# Altium integrated library Linear Technology PMIC-Switching Reg LTC1174-LTC3901.IntLib: 2647 symbols (part 157 of 310)
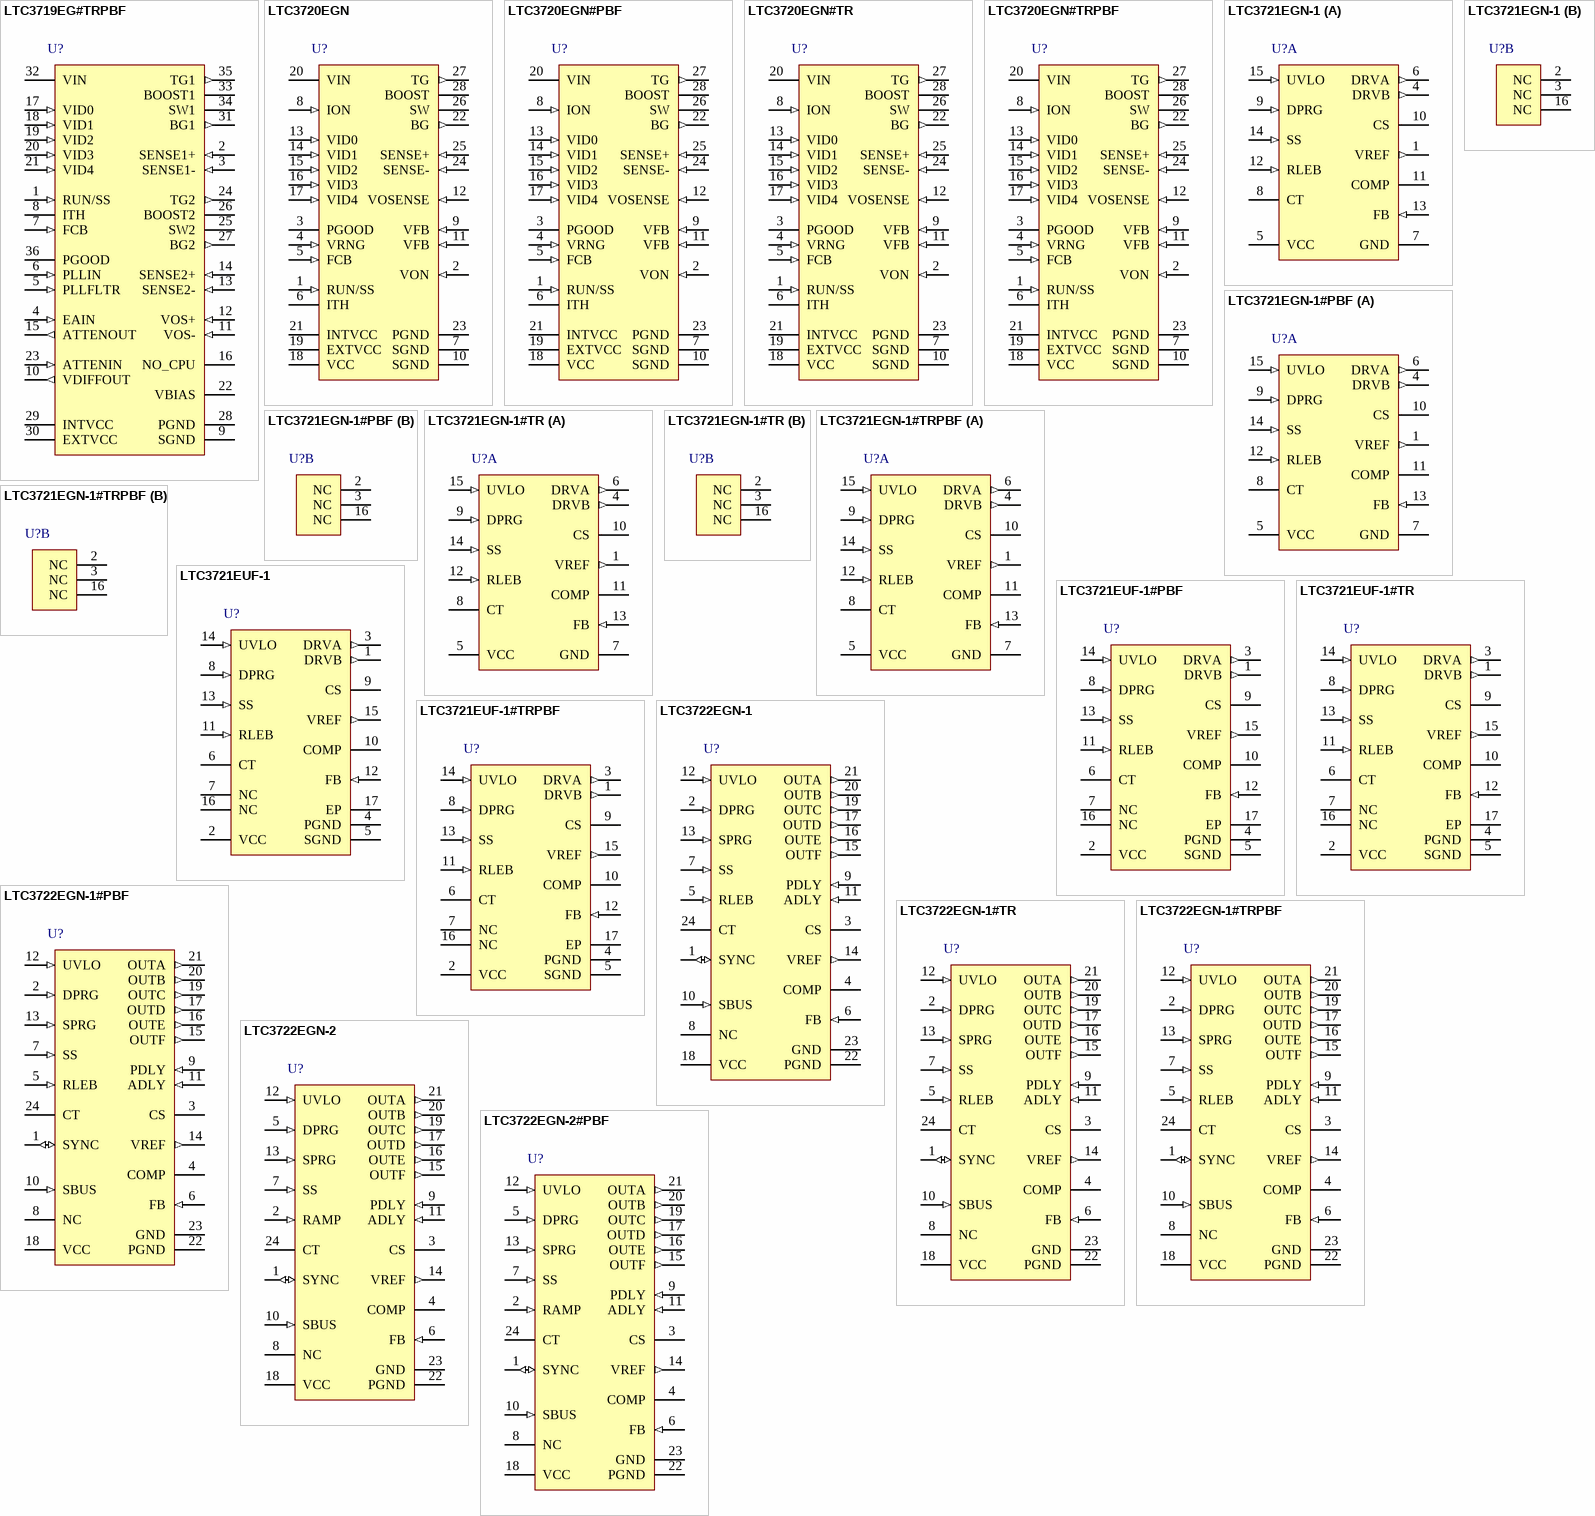
[diagram p206: symbols LTC3719EG#TRPBF to LTC3722EGN-2#PBF]

## LTC3720EGN#TR
designator U?
Single Phase VRM8.5 Current Mode Step-Down Controller, 28-pin SOP (GN-28), -40 to 85 degC, Tape and Reel; Manufacturer: Linear Technology; PartNumber: LTC3720EGN#TR; Number of Outputs: 1; PackageReference: GN-28; PackageDescription: 28-Pin Plastic SSOP, Body 9.9 x 3.9 mm, Pitch 0.635 mm; Supplier 1: Digi-Key; Supplier Part Number 1: LTC3720EGNTR-ND; RoHS: FALSE
footprint LT-GN-28_N (SOP, 28-Leads, Body 9.98x3.98mm, Pitch 0.635mm, IPC Medium Density)
footprint LT-GN-28_L (SOP, 28-Leads, Body 9.98x3.98mm, Pitch 0.635mm, IPC High Density)
footprint LT-GN-28_M (SOP, 28-Leads, Body 9.98x3.98mm, Pitch 0.635mm, IPC Low Density)
pins: 1 RUN/SS (in) "Run Control and Soft-Start Input. A capacitor to ground at this pin sets the ramp time to full output current (approximately 3s/uF) and the time delay for overcurrent latchoff (see Applications Information). Forcing this pin (See Datasheet)", 2 VON (in) "On-Time Voltage Input. Voltage trip point for the on-time comparator. Tying this pin to the output voltage makes the on-time proportional to VOUT. The comparator input defaults to 0.7V when the pin is grounded, 2.4V when the (See Datasheet)", 3 PGOOD (oc) "Power Good Output. Open drain logic output that is pulled to ground when the output voltage is not within +/-7.5% of the regulation point.", 4 VRNG (in) "Sense Voltage Range Input. The voltage at this pin is ten times the nominal sense voltage at maximum output current and can be set from 0.5V to 2V by a resistive divider from INTVCC. The nominal sense voltage defaults to (See Datasheet)", 5 FCB (in) "Forced Continuous Input. Tie this pin to ground to force continuous synchronous operation at low load or to INTVCC to enable discontinuous mode operation at low load.", 6 ITH "Current Control Threshold and Error Amplifier Compensation Point. The current comparator threshold increases with this control voltage. The voltage ranges from 0V to 2.4V with 0.8V corresponding to zero sense voltage (zero (See Datasheet)", 7 SGND (power) "Signal Ground. All small-signal components and compensation components should connect to this ground, which in turn connects to PGND at one point.", 8 ION (in) "On-Time Current Input. Tie a resistor from VIN to this pin to set the one-shot timer current and thereby set the switching frequency.", 9 VFB (in) "Error Amplifier Feedback Input. This pin connects to both the error amplifier input and to the output of the internal resistive divider. It can be used to attach additional compensation components if desired.", 10 SGND (power) "Signal Ground. All small-signal components and compensation components should connect to this ground, which in turn connects to PGND at one point.", 11 VFB (in) "Error Amplifier Feedback Input. This pin connects to both the error amplifier input and to the output of the internal resistive divider. It can be used to attach additional compensation components if desired.", 12 VOSENSE (in) "Output Voltage Sense. The output voltage connects here to the input of the internal resistive feedback divider.", 13 VID0 (in) "VID Digital Inputs. The voltage identification (VID) code sets the internal feedback resistor divider ratio for different output voltages as shown in Table 1. If unconnected, the pins are pulled high by internal 40k pull-up (See Datasheet)", 14 VID1 (in) "VID Digital Inputs. The voltage identification (VID) code sets the internal feedback resistor divider ratio for different output voltages as shown in Table 1. If unconnected, the pins are pulled high by internal 40k pull-up (See Datasheet)", 15 VID2 (in) "VID Digital Inputs. The voltage identification (VID) code sets the internal feedback resistor divider ratio for different output voltages as shown in Table 1. If unconnected, the pins are pulled high by internal 40k pull-up (See Datasheet)", 16 VID3 (in) "VID Digital Inputs. The voltage identification (VID) code sets the internal feedback resistor divider ratio for different output voltages as shown in Table 1. If unconnected, the pins are pulled high by internal 40k pull-up (See Datasheet)", 17 VID4 (in) "VID Digital Inputs. The voltage identification (VID) code sets the internal feedback resistor divider ratio for different output voltages as shown in Table 1. If unconnected, the pins are pulled high by internal 40k pull-up (See Datasheet)", 18 VCC (power) "Power Supply Voltage for VID. Range is from 3.1V to 5.5V.", 19 EXTVCC (power) "External VCC Input. When EXTVCC exceeds 4.7V, an internal switch connects this pin to INTVCC and shuts down the internal regulator so that controller and gate drive power is drawn from EXTVCC. Do not exceed 7V at this pin (See Datasheet)", 20 VIN (power) "Main Input Supply. Decouple this pin to PGND with an RC filter (1ohm, 0.1uF).", 21 INTVCC (power) "Internal 5V Regulator Output. The driver and control circuits are powered from this voltage. Decouple this pin to power ground with a minimum of 4.7mF low ESR tantalum capacitor", 22 BG (out) "Bottom Gate Drive. Drives the gate of the bottom N-channel MOSFET between ground and INTVCC.", 23 PGND (power) "Power Ground. Connect this pin closely to the source of the bottom N-channel MOSFET, the (-) terminal of CVCC and the (-) terminal of CIN.", 24 SENSE- (in) "Current Sense Comparator Input. The (-) input is normally connected to PGND.", 25 SENSE+ (in) "Current Sense Comparator Input. The (+) input to the current comparator is normally connected to the SW node unless using a sense resistor (see Applications Information).", 26 SW "Switch Node. The (-) terminal of the bootstrap capacitor CB connects here. This pin swings from a diode voltage drop below ground up to VIN.", 27 TG (out) "Top Gate Drive. Drives the top N-channel MOSFET with a voltage swing equal to INTVCC superimposed on the switch node voltage SW.", 28 BOOST "Boosted Floating Driver Supply. The (+) terminal of the bootstrap capacitor CB connects here. This pin swings from a diode voltage drop below INTVCC up to VIN + INTVCC."

## LTC3720EGN#TRPBF
designator U?
Single Phase VRM8.5 Current Mode Step-Down Controller, 28-pin SOP (GN-28), -40 to 85 degC, Pb-Free, Tape and Reel; Manufacturer: Linear Technology; PartNumber: LTC3720EGN#TRPBF; Number of Outputs: 1; PackageReference: GN-28; PackageDescription: 28-Pin Plastic SSOP, Body 9.9 x 3.9 mm, Pitch 0.635 mm; Supplier 1: Digi-Key; Supplier Part Number 1: LTC3720EGN#TRPBF-ND; RoHS: TRUE
footprint LT-GN-28_N (SOP, 28-Leads, Body 9.98x3.98mm, Pitch 0.635mm, IPC Medium Density)
footprint LT-GN-28_L (SOP, 28-Leads, Body 9.98x3.98mm, Pitch 0.635mm, IPC High Density)
footprint LT-GN-28_M (SOP, 28-Leads, Body 9.98x3.98mm, Pitch 0.635mm, IPC Low Density)
pins: 1 RUN/SS (in) "Run Control and Soft-Start Input. A capacitor to ground at this pin sets the ramp time to full output current (approximately 3s/uF) and the time delay for overcurrent latchoff (see Applications Information). Forcing this pin (See Datasheet)", 2 VON (in) "On-Time Voltage Input. Voltage trip point for the on-time comparator. Tying this pin to the output voltage makes the on-time proportional to VOUT. The comparator input defaults to 0.7V when the pin is grounded, 2.4V when the (See Datasheet)", 3 PGOOD (oc) "Power Good Output. Open drain logic output that is pulled to ground when the output voltage is not within +/-7.5% of the regulation point.", 4 VRNG (in) "Sense Voltage Range Input. The voltage at this pin is ten times the nominal sense voltage at maximum output current and can be set from 0.5V to 2V by a resistive divider from INTVCC. The nominal sense voltage defaults to (See Datasheet)", 5 FCB (in) "Forced Continuous Input. Tie this pin to ground to force continuous synchronous operation at low load or to INTVCC to enable discontinuous mode operation at low load.", 6 ITH "Current Control Threshold and Error Amplifier Compensation Point. The current comparator threshold increases with this control voltage. The voltage ranges from 0V to 2.4V with 0.8V corresponding to zero sense voltage (zero (See Datasheet)", 7 SGND (power) "Signal Ground. All small-signal components and compensation components should connect to this ground, which in turn connects to PGND at one point.", 8 ION (in) "On-Time Current Input. Tie a resistor from VIN to this pin to set the one-shot timer current and thereby set the switching frequency.", 9 VFB (in) "Error Amplifier Feedback Input. This pin connects to both the error amplifier input and to the output of the internal resistive divider. It can be used to attach additional compensation components if desired.", 10 SGND (power) "Signal Ground. All small-signal components and compensation components should connect to this ground, which in turn connects to PGND at one point.", 11 VFB (in) "Error Amplifier Feedback Input. This pin connects to both the error amplifier input and to the output of the internal resistive divider. It can be used to attach additional compensation components if desired.", 12 VOSENSE (in) "Output Voltage Sense. The output voltage connects here to the input of the internal resistive feedback divider.", 13 VID0 (in) "VID Digital Inputs. The voltage identification (VID) code sets the internal feedback resistor divider ratio for different output voltages as shown in Table 1. If unconnected, the pins are pulled high by internal 40k pull-up (See Datasheet)", 14 VID1 (in) "VID Digital Inputs. The voltage identification (VID) code sets the internal feedback resistor divider ratio for different output voltages as shown in Table 1. If unconnected, the pins are pulled high by internal 40k pull-up (See Datasheet)", 15 VID2 (in) "VID Digital Inputs. The voltage identification (VID) code sets the internal feedback resistor divider ratio for different output voltages as shown in Table 1. If unconnected, the pins are pulled high by internal 40k pull-up (See Datasheet)", 16 VID3 (in) "VID Digital Inputs. The voltage identification (VID) code sets the internal feedback resistor divider ratio for different output voltages as shown in Table 1. If unconnected, the pins are pulled high by internal 40k pull-up (See Datasheet)", 17 VID4 (in) "VID Digital Inputs. The voltage identification (VID) code sets the internal feedback resistor divider ratio for different output voltages as shown in Table 1. If unconnected, the pins are pulled high by internal 40k pull-up (See Datasheet)", 18 VCC (power) "Power Supply Voltage for VID. Range is from 3.1V to 5.5V.", 19 EXTVCC (power) "External VCC Input. When EXTVCC exceeds 4.7V, an internal switch connects this pin to INTVCC and shuts down the internal regulator so that controller and gate drive power is drawn from EXTVCC. Do not exceed 7V at this pin (See Datasheet)", 20 VIN (power) "Main Input Supply. Decouple this pin to PGND with an RC filter (1ohm, 0.1uF).", 21 INTVCC (power) "Internal 5V Regulator Output. The driver and control circuits are powered from this voltage. Decouple this pin to power ground with a minimum of 4.7mF low ESR tantalum capacitor", 22 BG (out) "Bottom Gate Drive. Drives the gate of the bottom N-channel MOSFET between ground and INTVCC.", 23 PGND (power) "Power Ground. Connect this pin closely to the source of the bottom N-channel MOSFET, the (-) terminal of CVCC and the (-) terminal of CIN.", 24 SENSE- (in) "Current Sense Comparator Input. The (-) input is normally connected to PGND.", 25 SENSE+ (in) "Current Sense Comparator Input. The (+) input to the current comparator is normally connected to the SW node unless using a sense resistor (see Applications Information).", 26 SW "Switch Node. The (-) terminal of the bootstrap capacitor CB connects here. This pin swings from a diode voltage drop below ground up to VIN.", 27 TG (out) "Top Gate Drive. Drives the top N-channel MOSFET with a voltage swing equal to INTVCC superimposed on the switch node voltage SW.", 28 BOOST "Boosted Floating Driver Supply. The (+) terminal of the bootstrap capacitor CB connects here. This pin swings from a diode voltage drop below INTVCC up to VIN + INTVCC."

## LTC3721EGN-1
designator U?
Push-Pull PWM Controller, 16-pin SOP (GN-16), -40 to 85 degC; Manufacturer: Linear Technology; PartNumber: LTC3721EGN-1; Number of Outputs: 1; PackageReference: GN-16; PackageDescription: 16-Pin Plastic SSOP, Body 4.9 x 3.9 mm, Pitch 0.635 mm; Supplier 1: Digi-Key; Supplier Part Number 1: LTC3721EGN-1-ND; RoHS: FALSE
footprint LT-GN-16_N (SOP, 16-Leads, Body 5x4mm, Pitch 0.635mm, IPC Medium Density)
footprint LT-GN-16_L (SOP, 16-Leads, Body 5x4mm, Pitch 0.635mm, IPC High Density)
footprint LT-GN-16_M (SOP, 16-Leads, Body 5x4mm, Pitch 0.635mm, IPC Low Density)
part A pins: 1 VREF (out) "Output of the 5.0V Reference. VREF is capable of supplying up to 18mA to external circuitry. VREF should be decoupled to GND with a 1uF ceramic capacitor.", 4 DRVB (out) "High Speed 1.5A Sink, 1A Source Totem Pole MOSFET Driver. Connect to gate of external push-pull MOSFET with as short a PCB trace as practical to preserve drive signal integrity. A low value resistor connected between DRVA (See Datasheet)", 5 VCC (power) "Supply Voltage Input to the LTC3721-1 and 10.25V Shunt Regulator. The chip is enabled after VCC has risen high enough to allow the VCC shunt regulator to conduct current and the UVLO comparator threshold is exceeded. Once (See Datasheet)", 6 DRVA (out) "High Speed 1.5A Sink, 1A Source Totem Pole MOSFET Driver. Connect to gate of external push-pull MOSFET with as short a PCB trace as practical to preserve drive signal integrity. A low value resistor connected between DRVA (See Datasheet)", 7 GND (power) "All circuits in the LTC3721-1 are referenced to GND. Use of a ground plane is highly recommended. VIN and VREF bypass capacitors must be terminated with a star configuration as close to GND as practical for best performance. (See Datasheet)", 8 CT "Timing Capacitor for the Oscillator. Use a +/-5% or better low ESR ceramic capacitor for best results. CT  ramp amplitude is 2.35V peak-to-peak (typical).", 9 DPRG (in) "Programming Input for Push-Pull Dead-Time. Connect a resistor between DPRG and VREF to program the dead-time. The nominal voltage on DPRG is 2V.", 10 CS "Input to Pulse-by-Pulse and Overload Current Limit Comparators, Output of Slope Compensation Circuitry. The pulse-by-pulse comparator has a nominal 300mV threshold, while the overload comparator has a nominal 600mV threshold.(See Datasheet)", 11 COMP "Error Amplifier Output, Inverting Input to Phase Modulator.", 12 RLEB (in) "Timing Resistor for Leading Edge Blanking. Use a 10k to 100k resistor connected between RLEB and GND to program from 40ns to 310ns of leading edge blanking of the current sense signal on CS for the LTC3721-1. A +/-1% (See Datasheet)", 13 FB (in) "Error Amplifier Inverting Input. This is the voltage feedback input for the LTC3721-1. The nominal regulation voltage at FB is 1.2V.", 14 SS (in) "Soft-Start/Restart Delay Circuitry Timing Capacitor. A capacitor from SS to GND provides a controlled ramp of the current command. During overload conditions, SS is discharged to ground initiating a softstart cycle. SS (See Datasheet)", 15 UVLO (in) "Input to Program System Turn-On and Turn-Off Voltages. The nominal threshold of the UVLO comparator is 5.0V. UVLO is connected to the main DC system feed through a resistor divider. When the UVLO threshold is exceeded, the (See Datasheet)"
part B pins: 2 NC "Not Connected.", 3 NC "Not Connected.", 16 NC "Not Connected."

## LTC3721EGN-1#PBF
designator U?
Push-Pull PWM Controller, 16-pin SOP (GN-16), -40 to 85 degC, Pb-Free; Manufacturer: Linear Technology; PartNumber: LTC3721EGN-1#PBF; Number of Outputs: 1; PackageReference: GN-16; PackageDescription: 16-Pin Plastic SSOP, Body 4.9 x 3.9 mm, Pitch 0.635 mm; Supplier 1: Digi-Key; Supplier Part Number 1: LTC3721EGN-1#PBF-ND; RoHS: TRUE
footprint LT-GN-16_N (SOP, 16-Leads, Body 5x4mm, Pitch 0.635mm, IPC Medium Density)
footprint LT-GN-16_L (SOP, 16-Leads, Body 5x4mm, Pitch 0.635mm, IPC High Density)
footprint LT-GN-16_M (SOP, 16-Leads, Body 5x4mm, Pitch 0.635mm, IPC Low Density)
part A pins: 1 VREF (out) "Output of the 5.0V Reference. VREF is capable of supplying up to 18mA to external circuitry. VREF should be decoupled to GND with a 1uF ceramic capacitor.", 4 DRVB (out) "High Speed 1.5A Sink, 1A Source Totem Pole MOSFET Driver. Connect to gate of external push-pull MOSFET with as short a PCB trace as practical to preserve drive signal integrity. A low value resistor connected between DRVA (See Datasheet)", 5 VCC (power) "Supply Voltage Input to the LTC3721-1 and 10.25V Shunt Regulator. The chip is enabled after VCC has risen high enough to allow the VCC shunt regulator to conduct current and the UVLO comparator threshold is exceeded. Once (See Datasheet)", 6 DRVA (out) "High Speed 1.5A Sink, 1A Source Totem Pole MOSFET Driver. Connect to gate of external push-pull MOSFET with as short a PCB trace as practical to preserve drive signal integrity. A low value resistor connected between DRVA (See Datasheet)", 7 GND (power) "All circuits in the LTC3721-1 are referenced to GND. Use of a ground plane is highly recommended. VIN and VREF bypass capacitors must be terminated with a star configuration as close to GND as practical for best performance. (See Datasheet)", 8 CT "Timing Capacitor for the Oscillator. Use a +/-5% or better low ESR ceramic capacitor for best results. CT  ramp amplitude is 2.35V peak-to-peak (typical).", 9 DPRG (in) "Programming Input for Push-Pull Dead-Time. Connect a resistor between DPRG and VREF to program the dead-time. The nominal voltage on DPRG is 2V.", 10 CS "Input to Pulse-by-Pulse and Overload Current Limit Comparators, Output of Slope Compensation Circuitry. The pulse-by-pulse comparator has a nominal 300mV threshold, while the overload comparator has a nominal 600mV threshold.(See Datasheet)", 11 COMP "Error Amplifier Output, Inverting Input to Phase Modulator.", 12 RLEB (in) "Timing Resistor for Leading Edge Blanking. Use a 10k to 100k resistor connected between RLEB and GND to program from 40ns to 310ns of leading edge blanking of the current sense signal on CS for the LTC3721-1. A +/-1% (See Datasheet)", 13 FB (in) "Error Amplifier Inverting Input. This is the voltage feedback input for the LTC3721-1. The nominal regulation voltage at FB is 1.2V.", 14 SS (in) "Soft-Start/Restart Delay Circuitry Timing Capacitor. A capacitor from SS to GND provides a controlled ramp of the current command. During overload conditions, SS is discharged to ground initiating a softstart cycle. SS (See Datasheet)", 15 UVLO (in) "Input to Program System Turn-On and Turn-Off Voltages. The nominal threshold of the UVLO comparator is 5.0V. UVLO is connected to the main DC system feed through a resistor divider. When the UVLO threshold is exceeded, the (See Datasheet)"
part B pins: 2 NC "Not Connected.", 3 NC "Not Connected.", 16 NC "Not Connected."

## LTC3721EGN-1#TR
designator U?
Push-Pull PWM Controller, 16-pin SOP (GN-16), -40 to 85 degC, Tape and Reel; Manufacturer: Linear Technology; PartNumber: LTC3721EGN-1#TR; Number of Outputs: 1; PackageReference: GN-16; PackageDescription: 16-Pin Plastic SSOP, Body 4.9 x 3.9 mm, Pitch 0.635 mm; Supplier 1: Digi-Key; Supplier Part Number 1: LTC3721EGN-1#TR-ND; RoHS: FALSE
footprint LT-GN-16_N (SOP, 16-Leads, Body 5x4mm, Pitch 0.635mm, IPC Medium Density)
footprint LT-GN-16_L (SOP, 16-Leads, Body 5x4mm, Pitch 0.635mm, IPC High Density)
footprint LT-GN-16_M (SOP, 16-Leads, Body 5x4mm, Pitch 0.635mm, IPC Low Density)
part A pins: 1 VREF (out) "Output of the 5.0V Reference. VREF is capable of supplying up to 18mA to external circuitry. VREF should be decoupled to GND with a 1uF ceramic capacitor.", 4 DRVB (out) "High Speed 1.5A Sink, 1A Source Totem Pole MOSFET Driver. Connect to gate of external push-pull MOSFET with as short a PCB trace as practical to preserve drive signal integrity. A low value resistor connected between DRVA (See Datasheet)", 5 VCC (power) "Supply Voltage Input to the LTC3721-1 and 10.25V Shunt Regulator. The chip is enabled after VCC has risen high enough to allow the VCC shunt regulator to conduct current and the UVLO comparator threshold is exceeded. Once (See Datasheet)", 6 DRVA (out) "High Speed 1.5A Sink, 1A Source Totem Pole MOSFET Driver. Connect to gate of external push-pull MOSFET with as short a PCB trace as practical to preserve drive signal integrity. A low value resistor connected between DRVA (See Datasheet)", 7 GND (power) "All circuits in the LTC3721-1 are referenced to GND. Use of a ground plane is highly recommended. VIN and VREF bypass capacitors must be terminated with a star configuration as close to GND as practical for best performance. (See Datasheet)", 8 CT "Timing Capacitor for the Oscillator. Use a +/-5% or better low ESR ceramic capacitor for best results. CT  ramp amplitude is 2.35V peak-to-peak (typical).", 9 DPRG (in) "Programming Input for Push-Pull Dead-Time. Connect a resistor between DPRG and VREF to program the dead-time. The nominal voltage on DPRG is 2V.", 10 CS "Input to Pulse-by-Pulse and Overload Current Limit Comparators, Output of Slope Compensation Circuitry. The pulse-by-pulse comparator has a nominal 300mV threshold, while the overload comparator has a nominal 600mV threshold.(See Datasheet)", 11 COMP "Error Amplifier Output, Inverting Input to Phase Modulator.", 12 RLEB (in) "Timing Resistor for Leading Edge Blanking. Use a 10k to 100k resistor connected between RLEB and GND to program from 40ns to 310ns of leading edge blanking of the current sense signal on CS for the LTC3721-1. A +/-1% (See Datasheet)", 13 FB (in) "Error Amplifier Inverting Input. This is the voltage feedback input for the LTC3721-1. The nominal regulation voltage at FB is 1.2V.", 14 SS (in) "Soft-Start/Restart Delay Circuitry Timing Capacitor. A capacitor from SS to GND provides a controlled ramp of the current command. During overload conditions, SS is discharged to ground initiating a softstart cycle. SS (See Datasheet)", 15 UVLO (in) "Input to Program System Turn-On and Turn-Off Voltages. The nominal threshold of the UVLO comparator is 5.0V. UVLO is connected to the main DC system feed through a resistor divider. When the UVLO threshold is exceeded, the (See Datasheet)"
part B pins: 2 NC "Not Connected.", 3 NC "Not Connected.", 16 NC "Not Connected."

## LTC3721EGN-1#TRPBF
designator U?
Push-Pull PWM Controller, 16-pin SOP (GN-16), -40 to 85 degC, Pb-Free, Tape and Reel; Manufacturer: Linear Technology; PartNumber: LTC3721EGN-1#TRPBF; Number of Outputs: 1; PackageReference: GN-16; PackageDescription: 16-Pin Plastic SSOP, Body 4.9 x 3.9 mm, Pitch 0.635 mm; Supplier 1: Digi-Key; Supplier Part Number 1: LTC3721EGN-1#TRPBF-ND; RoHS: TRUE
footprint LT-GN-16_N (SOP, 16-Leads, Body 5x4mm, Pitch 0.635mm, IPC Medium Density)
footprint LT-GN-16_L (SOP, 16-Leads, Body 5x4mm, Pitch 0.635mm, IPC High Density)
footprint LT-GN-16_M (SOP, 16-Leads, Body 5x4mm, Pitch 0.635mm, IPC Low Density)
part A pins: 1 VREF (out) "Output of the 5.0V Reference. VREF is capable of supplying up to 18mA to external circuitry. VREF should be decoupled to GND with a 1uF ceramic capacitor.", 4 DRVB (out) "High Speed 1.5A Sink, 1A Source Totem Pole MOSFET Driver. Connect to gate of external push-pull MOSFET with as short a PCB trace as practical to preserve drive signal integrity. A low value resistor connected between DRVA (See Datasheet)", 5 VCC (power) "Supply Voltage Input to the LTC3721-1 and 10.25V Shunt Regulator. The chip is enabled after VCC has risen high enough to allow the VCC shunt regulator to conduct current and the UVLO comparator threshold is exceeded. Once (See Datasheet)", 6 DRVA (out) "High Speed 1.5A Sink, 1A Source Totem Pole MOSFET Driver. Connect to gate of external push-pull MOSFET with as short a PCB trace as practical to preserve drive signal integrity. A low value resistor connected between DRVA (See Datasheet)", 7 GND (power) "All circuits in the LTC3721-1 are referenced to GND. Use of a ground plane is highly recommended. VIN and VREF bypass capacitors must be terminated with a star configuration as close to GND as practical for best performance. (See Datasheet)", 8 CT "Timing Capacitor for the Oscillator. Use a +/-5% or better low ESR ceramic capacitor for best results. CT  ramp amplitude is 2.35V peak-to-peak (typical).", 9 DPRG (in) "Programming Input for Push-Pull Dead-Time. Connect a resistor between DPRG and VREF to program the dead-time. The nominal voltage on DPRG is 2V.", 10 CS "Input to Pulse-by-Pulse and Overload Current Limit Comparators, Output of Slope Compensation Circuitry. The pulse-by-pulse comparator has a nominal 300mV threshold, while the overload comparator has a nominal 600mV threshold.(See Datasheet)", 11 COMP "Error Amplifier Output, Inverting Input to Phase Modulator.", 12 RLEB (in) "Timing Resistor for Leading Edge Blanking. Use a 10k to 100k resistor connected between RLEB and GND to program from 40ns to 310ns of leading edge blanking of the current sense signal on CS for the LTC3721-1. A +/-1% (See Datasheet)", 13 FB (in) "Error Amplifier Inverting Input. This is the voltage feedback input for the LTC3721-1. The nominal regulation voltage at FB is 1.2V.", 14 SS (in) "Soft-Start/Restart Delay Circuitry Timing Capacitor. A capacitor from SS to GND provides a controlled ramp of the current command. During overload conditions, SS is discharged to ground initiating a softstart cycle. SS (See Datasheet)", 15 UVLO (in) "Input to Program System Turn-On and Turn-Off Voltages. The nominal threshold of the UVLO comparator is 5.0V. UVLO is connected to the main DC system feed through a resistor divider. When the UVLO threshold is exceeded, the (See Datasheet)"
part B pins: 2 NC "Not Connected.", 3 NC "Not Connected.", 16 NC "Not Connected."

## LTC3721EUF-1
designator U?
Push-Pull PWM Controller, 16-pin QFN (UF-16), -40 to 85 degC; Manufacturer: Linear Technology; PartNumber: LTC3721EUF-1; Number of Outputs: 1; PackageReference: UF-16; PackageDescription: 16-Pin Plastic QFN, Body 4 x 4 mm, Pitch 0.65 mm; Supplier 1: Digi-Key; Supplier Part Number 1: LTC3721EUF-1-ND; RoHS: FALSE; Code_JEDEC: MO-220
footprint LT-UF-16_N (QFN, 16-Leads, Body 4.1x4.1mm, Pitch 0.65mm, Thermal Pad 2.15x2.15mm, IPC Medium Density)
footprint LT-UF-16_L (QFN, 16-Leads, Body 4.1x4.1mm, Pitch 0.65mm, Thermal Pad 2.15x2.15mm, IPC High Density)
footprint LT-UF-16_M (QFN, 16-Leads, Body 4.1x4.1mm, Pitch 0.65mm, Thermal Pad 2.15x2.15mm, IPC Low Density)
pins: 1 DRVB (out) "High Speed 1.5A Sink, 1A Source Totem Pole MOSFET Driver. Connect to gate of external push-pull MOSFET with as short a PCB trace as practical to preserve drive signal integrity. A low value resistor connected between DRVA (See Datasheet)", 2 VCC (power) "Supply Voltage Input to the LTC3721-1 and 10.25V Shunt Regulator. The chip is enabled after VCC has risen high enough to allow the VCC shunt regulator to conduct current and the UVLO comparator threshold is exceeded. Once (See Datasheet)", 3 DRVA (out) "High Speed 1.5A Sink, 1A Source Totem Pole MOSFET Driver. Connect to gate of external push-pull MOSFET with as short a PCB trace as practical to preserve drive signal integrity. A low value resistor connected between DRVA (See Datasheet)", 4 PGND (power) "All circuits in the LTC3721-1 are referenced to GND. Use of a ground plane is highly recommended. VIN and VREF bypass capacitors must be terminated with a star configuration as close to GND as practical for best performance. (See Datasheet)", 5 SGND (power) "All circuits in the LTC3721-1 are referenced to GND. Use of a ground plane is highly recommended. VIN and VREF bypass capacitors must be terminated with a star configuration as close to GND as practical for best performance. (See Datasheet)", 6 CT "Timing Capacitor for the Oscillator. Use a +/-5% or better low ESR ceramic capacitor for best results. CT ramp amplitude is 2.35V peak-to-peak (typical).", 7 NC "Not Connected.", 8 DPRG (in) "Programming Input for Push-Pull Dead-Time. Connect a resistor between DPRG and VREF to program the dead-time. The nominal voltage on DPRG is 2V.", 9 CS "Input to Pulse-by-Pulse and Overload Current Limit Comparators, Output of Slope Compensation Circuitry. The pulse-by-pulse comparator has a nominal 300mV threshold, while the overload comparator has a nominal 600mV threshold.(See Datasheet)", 10 COMP "Error Amplifier Output, Inverting Input to Phase Modulator.", 11 RLEB (in) "Timing Resistor for Leading Edge Blanking. Use a 10k to 100k resistor connected between RLEB and GND to program from 40ns to 310ns of leading edge blanking of the current sense signal on CS for the LTC3721-1. A +/-1% (See Datasheet)", 12 FB (in) "Error Amplifier Inverting Input. This is the voltage feedback input for the LTC3721-1. The nominal regulation voltage at FB is 1.2V.", 13 SS (in) "Soft-Start/Restart Delay Circuitry Timing Capacitor. A capacitor from SS to GND provides a controlled ramp of the current command. During overload conditions, SS is discharged to ground initiating a softstart cycle. SS (See Datasheet)", 14 UVLO (in) "Input to Program System Turn-On and Turn-Off Voltages. The nominal threshold of the UVLO comparator is 5.0V. UVLO is connected to the main DC system feed through a resistor divider. When the UVLO threshold is exceeded, the (See Datasheet)", 15 VREF (out) "Output of the 5.0V Reference. VREF is capable of supplying up to 18mA to external circuitry. VREF should be decoupled to GND with a 1uF ceramic capacitor.", 16 NC "Not Connected.", 17 EP (power) "All circuits in the LTC3721-1 are referenced to GND. Use of a ground plane is highly recommended. VIN and VREF bypass capacitors must be terminated with a star configuration as close to GND as practical for best performance. (See Datasheet)"

## LTC3721EUF-1#PBF
designator U?
Push-Pull PWM Controller, 16-pin QFN (UF-16), -40 to 85 degC, Pb-Free; Manufacturer: Linear Technology; PartNumber: LTC3721EUF-1#PBF; Number of Outputs: 1; PackageReference: UF-16; PackageDescription: 16-Pin Plastic QFN, Body 4 x 4 mm, Pitch 0.65 mm; Supplier 1: Digi-Key; Supplier Part Number 1: LTC3721EUF-1#PBF-ND; RoHS: TRUE; Code_JEDEC: MO-220
footprint LT-UF-16_N (QFN, 16-Leads, Body 4.1x4.1mm, Pitch 0.65mm, Thermal Pad 2.15x2.15mm, IPC Medium Density)
footprint LT-UF-16_L (QFN, 16-Leads, Body 4.1x4.1mm, Pitch 0.65mm, Thermal Pad 2.15x2.15mm, IPC High Density)
footprint LT-UF-16_M (QFN, 16-Leads, Body 4.1x4.1mm, Pitch 0.65mm, Thermal Pad 2.15x2.15mm, IPC Low Density)
pins: 1 DRVB (out) "High Speed 1.5A Sink, 1A Source Totem Pole MOSFET Driver. Connect to gate of external push-pull MOSFET with as short a PCB trace as practical to preserve drive signal integrity. A low value resistor connected between DRVA (See Datasheet)", 2 VCC (power) "Supply Voltage Input to the LTC3721-1 and 10.25V Shunt Regulator. The chip is enabled after VCC has risen high enough to allow the VCC shunt regulator to conduct current and the UVLO comparator threshold is exceeded. Once (See Datasheet)", 3 DRVA (out) "High Speed 1.5A Sink, 1A Source Totem Pole MOSFET Driver. Connect to gate of external push-pull MOSFET with as short a PCB trace as practical to preserve drive signal integrity. A low value resistor connected between DRVA (See Datasheet)", 4 PGND (power) "All circuits in the LTC3721-1 are referenced to GND. Use of a ground plane is highly recommended. VIN and VREF bypass capacitors must be terminated with a star configuration as close to GND as practical for best performance. (See Datasheet)", 5 SGND (power) "All circuits in the LTC3721-1 are referenced to GND. Use of a ground plane is highly recommended. VIN and VREF bypass capacitors must be terminated with a star configuration as close to GND as practical for best performance. (See Datasheet)", 6 CT "Timing Capacitor for the Oscillator. Use a +/-5% or better low ESR ceramic capacitor for best results. CT ramp amplitude is 2.35V peak-to-peak (typical).", 7 NC "Not Connected.", 8 DPRG (in) "Programming Input for Push-Pull Dead-Time. Connect a resistor between DPRG and VREF to program the dead-time. The nominal voltage on DPRG is 2V.", 9 CS "Input to Pulse-by-Pulse and Overload Current Limit Comparators, Output of Slope Compensation Circuitry. The pulse-by-pulse comparator has a nominal 300mV threshold, while the overload comparator has a nominal 600mV threshold.(See Datasheet)", 10 COMP "Error Amplifier Output, Inverting Input to Phase Modulator.", 11 RLEB (in) "Timing Resistor for Leading Edge Blanking. Use a 10k to 100k resistor connected between RLEB and GND to program from 40ns to 310ns of leading edge blanking of the current sense signal on CS for the LTC3721-1. A +/-1% (See Datasheet)", 12 FB (in) "Error Amplifier Inverting Input. This is the voltage feedback input for the LTC3721-1. The nominal regulation voltage at FB is 1.2V.", 13 SS (in) "Soft-Start/Restart Delay Circuitry Timing Capacitor. A capacitor from SS to GND provides a controlled ramp of the current command. During overload conditions, SS is discharged to ground initiating a softstart cycle. SS (See Datasheet)", 14 UVLO (in) "Input to Program System Turn-On and Turn-Off Voltages. The nominal threshold of the UVLO comparator is 5.0V. UVLO is connected to the main DC system feed through a resistor divider. When the UVLO threshold is exceeded, the (See Datasheet)", 15 VREF (out) "Output of the 5.0V Reference. VREF is capable of supplying up to 18mA to external circuitry. VREF should be decoupled to GND with a 1uF ceramic capacitor.", 16 NC "Not Connected.", 17 EP (power) "All circuits in the LTC3721-1 are referenced to GND. Use of a ground plane is highly recommended. VIN and VREF bypass capacitors must be terminated with a star configuration as close to GND as practical for best performance. (See Datasheet)"

## LTC3721EUF-1#TR
designator U?
Push-Pull PWM Controller, 16-pin QFN (UF-16), -40 to 85 degC, Tape and Reel; Manufacturer: Linear Technology; PartNumber: LTC3721EUF-1#TR; Number of Outputs: 1; PackageReference: UF-16; PackageDescription: 16-Pin Plastic QFN, Body 4 x 4 mm, Pitch 0.65 mm; Supplier 1: Digi-Key; Supplier Part Number 1: LTC3721EUF-1#TR-ND; RoHS: FALSE; Code_JEDEC: MO-220
footprint LT-UF-16_N (QFN, 16-Leads, Body 4.1x4.1mm, Pitch 0.65mm, Thermal Pad 2.15x2.15mm, IPC Medium Density)
footprint LT-UF-16_L (QFN, 16-Leads, Body 4.1x4.1mm, Pitch 0.65mm, Thermal Pad 2.15x2.15mm, IPC High Density)
footprint LT-UF-16_M (QFN, 16-Leads, Body 4.1x4.1mm, Pitch 0.65mm, Thermal Pad 2.15x2.15mm, IPC Low Density)
pins: 1 DRVB (out) "High Speed 1.5A Sink, 1A Source Totem Pole MOSFET Driver. Connect to gate of external push-pull MOSFET with as short a PCB trace as practical to preserve drive signal integrity. A low value resistor connected between DRVA (See Datasheet)", 2 VCC (power) "Supply Voltage Input to the LTC3721-1 and 10.25V Shunt Regulator. The chip is enabled after VCC has risen high enough to allow the VCC shunt regulator to conduct current and the UVLO comparator threshold is exceeded. Once (See Datasheet)", 3 DRVA (out) "High Speed 1.5A Sink, 1A Source Totem Pole MOSFET Driver. Connect to gate of external push-pull MOSFET with as short a PCB trace as practical to preserve drive signal integrity. A low value resistor connected between DRVA (See Datasheet)", 4 PGND (power) "All circuits in the LTC3721-1 are referenced to GND. Use of a ground plane is highly recommended. VIN and VREF bypass capacitors must be terminated with a star configuration as close to GND as practical for best performance. (See Datasheet)", 5 SGND (power) "All circuits in the LTC3721-1 are referenced to GND. Use of a ground plane is highly recommended. VIN and VREF bypass capacitors must be terminated with a star configuration as close to GND as practical for best performance. (See Datasheet)", 6 CT "Timing Capacitor for the Oscillator. Use a +/-5% or better low ESR ceramic capacitor for best results. CT ramp amplitude is 2.35V peak-to-peak (typical).", 7 NC "Not Connected.", 8 DPRG (in) "Programming Input for Push-Pull Dead-Time. Connect a resistor between DPRG and VREF to program the dead-time. The nominal voltage on DPRG is 2V.", 9 CS "Input to Pulse-by-Pulse and Overload Current Limit Comparators, Output of Slope Compensation Circuitry. The pulse-by-pulse comparator has a nominal 300mV threshold, while the overload comparator has a nominal 600mV threshold.(See Datasheet)", 10 COMP "Error Amplifier Output, Inverting Input to Phase Modulator.", 11 RLEB (in) "Timing Resistor for Leading Edge Blanking. Use a 10k to 100k resistor connected between RLEB and GND to program from 40ns to 310ns of leading edge blanking of the current sense signal on CS for the LTC3721-1. A +/-1% (See Datasheet)", 12 FB (in) "Error Amplifier Inverting Input. This is the voltage feedback input for the LTC3721-1. The nominal regulation voltage at FB is 1.2V.", 13 SS (in) "Soft-Start/Restart Delay Circuitry Timing Capacitor. A capacitor from SS to GND provides a controlled ramp of the current command. During overload conditions, SS is discharged to ground initiating a softstart cycle. SS (See Datasheet)", 14 UVLO (in) "Input to Program System Turn-On and Turn-Off Voltages. The nominal threshold of the UVLO comparator is 5.0V. UVLO is connected to the main DC system feed through a resistor divider. When the UVLO threshold is exceeded, the (See Datasheet)", 15 VREF (out) "Output of the 5.0V Reference. VREF is capable of supplying up to 18mA to external circuitry. VREF should be decoupled to GND with a 1uF ceramic capacitor.", 16 NC "Not Connected.", 17 EP (power) "All circuits in the LTC3721-1 are referenced to GND. Use of a ground plane is highly recommended. VIN and VREF bypass capacitors must be terminated with a star configuration as close to GND as practical for best performance. (See Datasheet)"

## LTC3721EUF-1#TRPBF
designator U?
Push-Pull PWM Controller, 16-pin QFN (UF-16), -40 to 85 degC, Pb-Free, Tape and Reel; Manufacturer: Linear Technology; PartNumber: LTC3721EUF-1#TRPBF; Number of Outputs: 1; PackageReference: UF-16; PackageDescription: 16-Pin Plastic QFN, Body 4 x 4 mm, Pitch 0.65 mm; Supplier 1: Digi-Key; Supplier Part Number 1: LTC3721EUF-1#TRPBF-ND; RoHS: TRUE; Code_JEDEC: MO-220
footprint LT-UF-16_N (QFN, 16-Leads, Body 4.1x4.1mm, Pitch 0.65mm, Thermal Pad 2.15x2.15mm, IPC Medium Density)
footprint LT-UF-16_L (QFN, 16-Leads, Body 4.1x4.1mm, Pitch 0.65mm, Thermal Pad 2.15x2.15mm, IPC High Density)
footprint LT-UF-16_M (QFN, 16-Leads, Body 4.1x4.1mm, Pitch 0.65mm, Thermal Pad 2.15x2.15mm, IPC Low Density)
pins: 1 DRVB (out) "High Speed 1.5A Sink, 1A Source Totem Pole MOSFET Driver. Connect to gate of external push-pull MOSFET with as short a PCB trace as practical to preserve drive signal integrity. A low value resistor connected between DRVA (See Datasheet)", 2 VCC (power) "Supply Voltage Input to the LTC3721-1 and 10.25V Shunt Regulator. The chip is enabled after VCC has risen high enough to allow the VCC shunt regulator to conduct current and the UVLO comparator threshold is exceeded. Once (See Datasheet)", 3 DRVA (out) "High Speed 1.5A Sink, 1A Source Totem Pole MOSFET Driver. Connect to gate of external push-pull MOSFET with as short a PCB trace as practical to preserve drive signal integrity. A low value resistor connected between DRVA (See Datasheet)", 4 PGND (power) "All circuits in the LTC3721-1 are referenced to GND. Use of a ground plane is highly recommended. VIN and VREF bypass capacitors must be terminated with a star configuration as close to GND as practical for best performance. (See Datasheet)", 5 SGND (power) "All circuits in the LTC3721-1 are referenced to GND. Use of a ground plane is highly recommended. VIN and VREF bypass capacitors must be terminated with a star configuration as close to GND as practical for best performance. (See Datasheet)", 6 CT "Timing Capacitor for the Oscillator. Use a +/-5% or better low ESR ceramic capacitor for best results. CT ramp amplitude is 2.35V peak-to-peak (typical).", 7 NC "Not Connected.", 8 DPRG (in) "Programming Input for Push-Pull Dead-Time. Connect a resistor between DPRG and VREF to program the dead-time. The nominal voltage on DPRG is 2V.", 9 CS "Input to Pulse-by-Pulse and Overload Current Limit Comparators, Output of Slope Compensation Circuitry. The pulse-by-pulse comparator has a nominal 300mV threshold, while the overload comparator has a nominal 600mV threshold.(See Datasheet)", 10 COMP "Error Amplifier Output, Inverting Input to Phase Modulator.", 11 RLEB (in) "Timing Resistor for Leading Edge Blanking. Use a 10k to 100k resistor connected between RLEB and GND to program from 40ns to 310ns of leading edge blanking of the current sense signal on CS for the LTC3721-1. A +/-1% (See Datasheet)", 12 FB (in) "Error Amplifier Inverting Input. This is the voltage feedback input for the LTC3721-1. The nominal regulation voltage at FB is 1.2V.", 13 SS (in) "Soft-Start/Restart Delay Circuitry Timing Capacitor. A capacitor from SS to GND provides a controlled ramp of the current command. During overload conditions, SS is discharged to ground initiating a softstart cycle. SS (See Datasheet)", 14 UVLO (in) "Input to Program System Turn-On and Turn-Off Voltages. The nominal threshold of the UVLO comparator is 5.0V. UVLO is connected to the main DC system feed through a resistor divider. When the UVLO threshold is exceeded, the (See Datasheet)", 15 VREF (out) "Output of the 5.0V Reference. VREF is capable of supplying up to 18mA to external circuitry. VREF should be decoupled to GND with a 1uF ceramic capacitor.", 16 NC "Not Connected.", 17 EP (power) "All circuits in the LTC3721-1 are referenced to GND. Use of a ground plane is highly recommended. VIN and VREF bypass capacitors must be terminated with a star configuration as close to GND as practical for best performance. (See Datasheet)"

## LTC3722EGN-1
designator U?
Synchronous Dual Mode Phase Modulated Full Bridge Controller, Current Mode, 24-pin SOP (GN-24), -40 to 85 degC; Manufacturer: Linear Technology; PartNumber: LTC3722EGN-1; Number of Outputs: 1; PackageReference: GN24; PackageDescription: 24-Pin Plastic SSOP , Body 8.5 x 3.9 mm, Pitch 0.635 mm; Supplier 1: Digi-Key; Supplier Part Number 1: LTC3722EGN-1-ND; RoHS: FALSE
footprint LT-GN-24_N (SOP, 24-Leads, Body 8.7x4mm, Pitch 0.635mm, IPC Medium Density)
footprint LT-GN-24_L (SOP, 24-Leads, Body 8.7x4mm, Pitch 0.635mm, IPC High Density)
footprint LT-GN-24_M (SOP, 24-Leads, Body 8.7x4mm, Pitch 0.635mm, IPC Low Density)
pins: 1 SYNC (io) "Synchronization Input/Output for the Oscillator. The input threshold for SYNC is approximately 1.9V, making it compatible with both CMOS and TTL logic. Terminate SYNC with a 5.1k resistor to GND.", 2 DPRG (in) "Programming Input for Default Zero Voltage Transition (ZVS) Delay. Connect a resistor from DPRG to VREF to set the maximum turn on delay for outputs A, B, C, D. The nominal voltage on DPRG is 2V.", 3 CS "Input to Phase Modulator for the LTC3722-1. Input to pulse-by-pulse and overload current limit comparators, output of slope compensation circuitry. The pulse by pulse comparator has a nominal 300mV threshold, while the (See Datasheet)", 4 COMP "Error Amplifier Output, Inverting Input to Phase Modulator.", 5 RLEB (in) "Timing Resistor for Leading Edge Blanking. Use a 10k to 100k resistor to program from 40ns to 310ns of leading edge blanking of the current sense signal on CS for the LTC3722-1. A +/-1% tolerance resistor is recommended. The (See Datasheet)", 6 FB (in) "Error Amplifier Inverting Input. This is the voltage feedback input for the LTC3722. The nominal regulation voltage at FB is 1.204V.", 7 SS (in) "Soft-Start/Restart Delay Circuitry Timing Capacitor. A capacitor from SS to GND provides a controlled ramp of the current command (LTC3722-1), or duty cycle (LTC3722-2). During overload conditions SS is discharged to ground (See Datasheet)", 8 NC "No Connection. Tie this pin to GND.", 9 PDLY (in) "Passive Leg Delay Circuit Input. PDLY is connected through a voltage divider to the left leg of the bridge in adaptive ZVS mode. In fixed ZVS mode, a voltage between 0V and 2.5V on PDLY, programs a fixed ZVS delay time for (See Datasheet)", 10 SBUS (in) "Line Voltage Sense Input. SBUS is connected to the main DC voltage feed by a resistive voltage divider when using adaptive ZVS control. The voltage divider is designed to produce 1.5V on SBUS at nominal VIN. If SBUS is tied (See Datasheet)", 11 ADLY (in) "Active Leg Delay Circuit Input. ADLY is connected through a voltage divider to the right leg of the bridge in adaptive ZVS mode. In fixed ZVS mode, a voltage between 0V and 2.5V on ADLY, programs a fixed ZVS delay time for (See Datasheet)", 12 UVLO (in) "Input to Program System Turn- On and Turn-Off Voltages. The nominal threshold of the UVLO comparator is 5V. UVLO is connected to the main DC system feed through a resistor divider. When the UVLO threshold is exceeded, the (See Datasheet)", 13 SPRG (in) "A resistor is connected between SPRG and GND to set the turn-off delay for the synchronous rectifier driver outputs (OUTE and OUTF). The nominal voltage on SPRG is 2V.", 14 VREF (out) "Output of the 5V Reference. VREF is capable of supplying up to 18mA to external circuitry. VREF should be decoupled to GND with a 1uF ceramic capacitor.", 15 OUTF (out) "50mA Driver for Synchronous Rectifier Associated with OUTB and OUTC.", 16 OUTE (out) "50mA Driver for Synchronous Rectifier Associated with OUTA and OUTD.", 17 OUTD (out) "50mA Driver for Low Side of the Full Bridge Active Leg.", 18 VCC (power) "Supply Voltage Input to the LTC3722-1/LTC3722-2 and 10.25V Shunt Regulator. The chip is enabled after VCC has risen high enough to allow the VCC shunt regulator to conduct current and the UVLO comparator threshold is (See Datasheet)", 19 OUTC (out) "50mA Driver for High Side of the Full Bridge Active Leg.", 20 OUTB (out) "50mA Driver for Low Side of the Full Bridge Passive Leg.", 21 OUTA (out) "50mA Driver for High Side of the Full Bridge Passive Leg.", 22 PGND (power) "Power Ground for the LTC3722. The output drivers of the LTC3722 are referenced to PGND. Connect the ceramic VCC bypass capacitor directly to PGND.", 23 GND (power) "All circuits other than the output drivers in the LTC3722 are referenced to GND. Use of a ground plane is recommended but not absolutely necessary.", 24 CT "Timing Capacitor for the Oscillator. Use a +/-5% or better low ESR ceramic capacitor for best results."